# EAGLE library part 2023960907 (library ic-mhm)
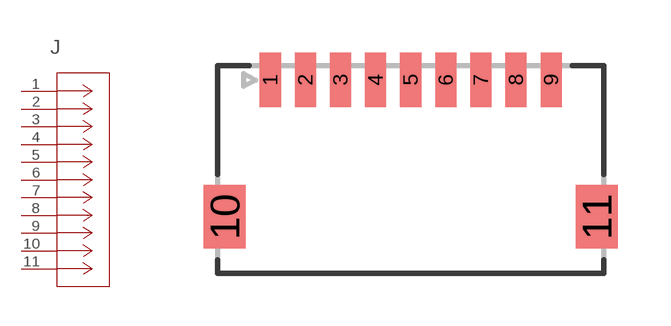
[diagram p1: symbol with the pads of CON_2023960907; footprint CON_2023960907]

Designator prefix J

## 2023960907 (COPYRIGHT: Copyright (C) 2021 Ultra Librarian. All rights reserved.; DIGI-KEY_PART_NUMBER_1: WM26786TR-ND; DIGI-KEY_PART_NUMBER_2: WM26786CT-ND; DIGI-KEY_PART_NUMBER_3: WM26786DKR-ND; MANUFACTURER_PART_NUMBER: 2023960907; MFR_NAME: Molex Connector Corporation)  [CON_2023960907]
1  1  pas
2  2  pas
3  3  pas
4  4  pas
5  5  pas
6  6  pas
7  7  pas
8  8  pas
9  9  pas
10  10  pas
11  11  pas

## Footprint CON_2023960907 (pad centres in mm)
smd 0.6 x 1.55: 1 0,0; 2 1,0; 3 2,0; 4 3,0; 5 4,0; 6 5,0; 7 6,0; 8 7,0; 9 8,0
smd 1.2 x 1.8: 10 -1.3,-3.9; 11 9.3,-3.9